# EAGLE library part DIP-LONG-BLACK-FEMALE-HEADER-VERT(8P-2.54-10.5) (library Seeed-OPL-Connector)
320030041
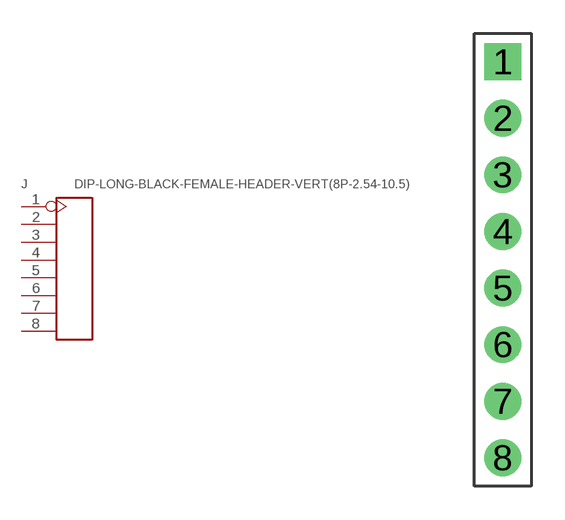
[diagram p161: symbol with the pads of H8-2.54; footprint H8-2.54]

Designator prefix J

## DIP-LONG-BLACK-FEMALE-HEADER-VERT(8P-2.54-10.5) (MPN: F185-1108A0BSYA5; VALUE: F185-1108A0BSYA5)  [H8-2.54]
1  1
2  2
3  3
4  4
5  5
6  6
7  7
8  8

## Footprint H8-2.54 (pad centres in mm)
drill 0.889 pad 1.651 square: 1 0,8.89
drill 0.889 pad 1.651: 2 0,6.35; 3 0,3.81; 4 0,1.27; 5 0,-1.27; 6 0,-3.81; 7 0,-6.35; 8 0,-8.89